# Altium schematic symbol library headers.SchLib: 10 symbols
Pins are listed as number, name and electrical type; pins without a type are passive.

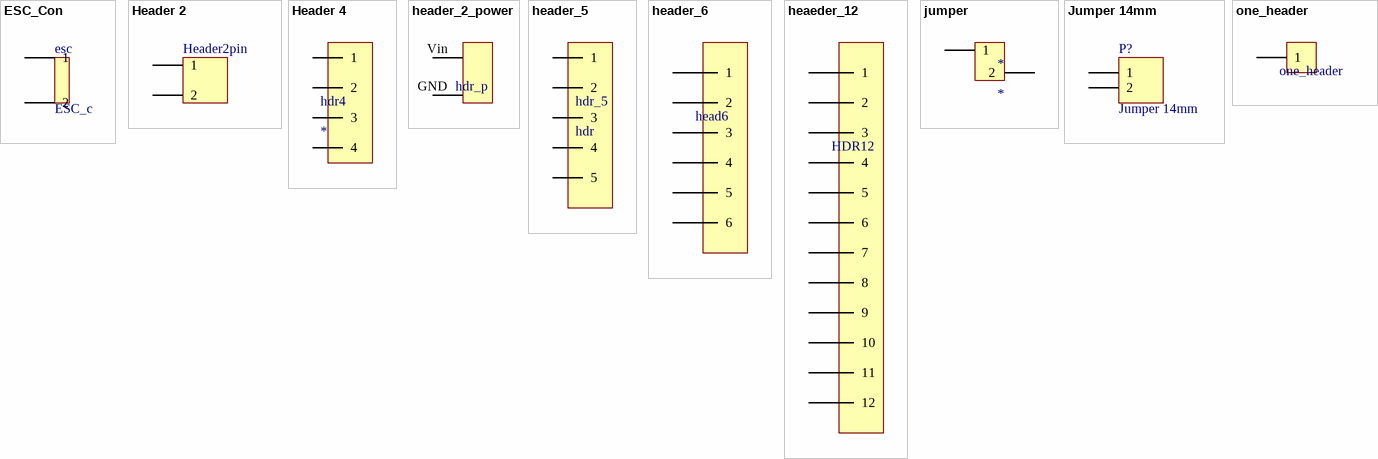
[diagram p0: symbols ESC_Con to one_header]

## ESC_Con
designator esc, comment ESC_c
Header, 2-Pin; LatestRevisionDate: 17-Jul-2002; LatestRevisionNote: Re-released for DXP Platform.; Publisher: Altium Limited
footprint HDR2_pin (Connector; Header; 2 Position)
signal-integrity model Connector
footprint HDR2_ESC (Connector; Header; 2 Position)
pins: 1, 2

## Header 2
designator Header2pin  (value not drawn)
Header, 2-Pin; LatestRevisionDate: 17-Jul-2002; LatestRevisionNote: Re-released for DXP Platform.; Publisher: Altium Limited
footprint HDR2_pin (Connector; Header; 2 Position)
signal-integrity model Connector
pins: 1, 2

## Header 4
designator hdr4
footprint HDR4_pin (Connector; Header; 2 Position)
pins: 1, 2, 3, 4

## header_2_power
designator hdr_p  (value not drawn)
footprint HDR2_POWER
pins: GND 2, Vin 1

## header_5
designator hdr_5, comment hdr
footprint hdr5_PIN
pins: 1, 2, 3, 4, 5

## header_6
designator head6  (value not drawn)
footprint hdr_6pın
pins: 1, 2, 3, 4, 5, 6

## heaeder_12
designator HDR12  (value not drawn)
footprint hdr12_pin
pins: 1, 2, 3, 4, 5, 6, 7, 8, 9, 10, 11, 12

## jumper
designator *
footprint HDR2_pin (Connector; Header; 2 Position)
pins: 1, 2

## Jumper 14mm
designator P?
LatestRevisionDate: 17-Jul-2002; LatestRevisionNote: Re-released for DXP Platform.; Publisher: Altium Limited
footprint jumper1 (Connector; Header; 2 Position)
signal-integrity model Connector
pins: 1, 2

## one_header
designator one_header  (value not drawn)
footprint tekli_header (Connector; Header; 2 Position)
pins: 1